# Altium schematic symbol library E2S_E2S_031_Review_done.SchLib: 1 symbol
Pins are listed as number, name and electrical type; pins without a type are passive.

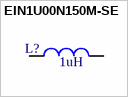
[diagram p0: symbol EIN1U00N150M-SE]

## EIN1U00N150M-SE
designator L?, comment value 1uH  (hidden comment: FIXED IND 1UH 405MA 150 MOHM SMD)
Manufacturer Part Number: LB2012T1R0M; Manufacturer: Taiyo Yuden; Internal Part Number: EIN1U00N150M-SE; Vendor Part Number: 587-2489-1-ND; 3rd Auxiliary Field: ROHS3 Compliant; Component Height (mm): 1.45mm; Temp Co: -40°C ~ 105°C; 4th Auxiliary Field: ±20%; Vendor Name: Digikey; Part Type: FIXED IND 1UH 405MA 150 MOHM SMD; 2nd Auxiliary Field: 150mOhm; 1st Auxiliary Field: 405mA
footprint SMDL0805 (BLM21PG331SN1D, FERRITE CHIP 330 OHM 0805)
pins: 1, 2